# EAGLE library part 74099-12 (library con-molex-c-grid)
C-Grid SL
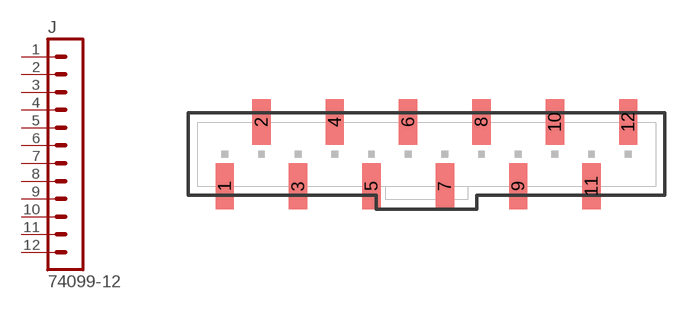
[diagram p46: symbol with the pads of 74099-12; footprint 74099-12]

Designator prefix J

## 74099-12  [74099-12]
1  1  pas
2  2  pas
3  3  pas
4  4  pas
5  5  pas
6  6  pas
7  7  pas
8  8  pas
9  9  pas
10  10  pas
11  11  pas
12  12  pas

## Footprint 74099-12 (pad centres in mm)
C-Grid SL vertical, SMD
smd 1.27 x 3.175: 1 -13.97,-2.223; 2 -11.43,2.223; 3 -8.89,-2.223; 4 -6.35,2.223; 5 -3.81,-2.223; 6 -1.27,2.223; 7 1.27,-2.223; 8 3.81,2.223; 9 6.35,-2.223; 10 8.89,2.223; 11 11.43,-2.223; 12 13.97,2.223